# EAGLE library part R8C/13(32PIN) (library renesas_mcu)
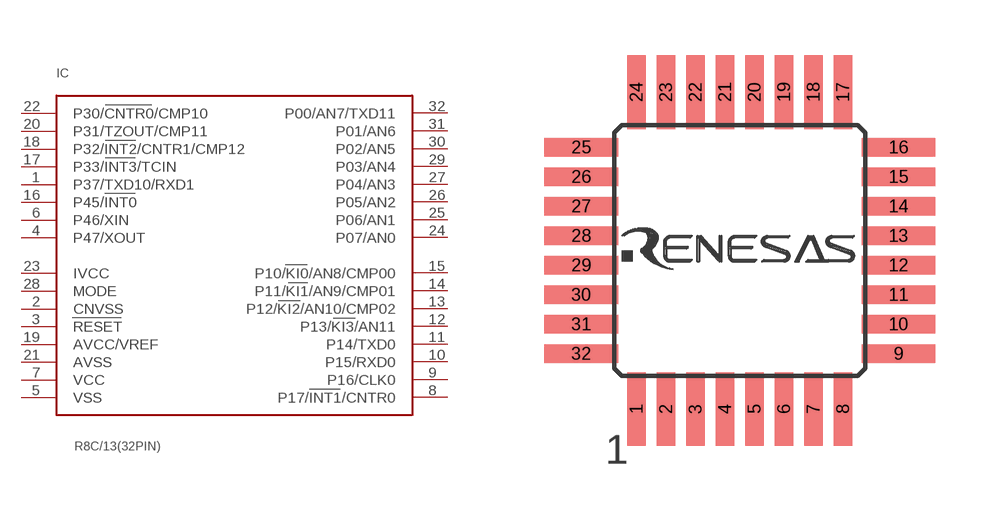
[diagram p81: symbol with the pads of 32P6U-A; footprint 32P6U-A]

Designator prefix IC

## R8C/13(32PIN)  [32P6U-A]
1  P37/TXD10/RXD1
2  CNVSS  in
3  RESET  in
4  P47/XOUT
5  VSS  in
6  P46/XIN  in
7  VCC  in
8  P17/INT1/CNTR0
9  P16/CLK0
10  P15/RXD0
11  P14/TXD0
12  P13/KI3/AN11
13  P12/KI2/AN10/CMP02
14  P11/KI1/AN9/CMP01
15  P10/KI0/AN8/CMP00
16  P45/INT0
17  P33/INT3/TCIN
18  P32/INT2/CNTR1/CMP12
19  AVCC/VREF  in
20  P31/TZOUT/CMP11
21  AVSS  in
22  P30/CNTR0/CMP10
23  IVCC  out
24  P07/AN0
25  P06/AN1
26  P05/AN2
27  P04/AN3
28  MODE  in
29  P03/AN4
30  P02/AN5
31  P01/AN6
32  P00/AN7/TXD11

## Footprint 32P6U-A (pad centres in mm)
smd 0.5 x 2: 1 -2.8,-4.3; 2 -2,-4.3; 3 -1.2,-4.3; 4 -0.4,-4.3; 5 0.4,-4.3; 6 1.2,-4.3; 7 2,-4.3; 8 2.8,-4.3; 17 2.8,4.3; 18 2,4.3; 19 1.2,4.3; 20 0.4,4.3; 21 -0.4,4.3; 22 -1.2,4.3; 23 -2,4.3; 24 -2.8,4.3
smd 2 x 0.5: 9 4.3,-2.8; 10 4.3,-2; 11 4.3,-1.2; 12 4.3,-0.4; 13 4.3,0.4; 14 4.3,1.2; 15 4.3,2; 16 4.3,2.8; 25 -4.3,2.8; 26 -4.3,2; 27 -4.3,1.2; 28 -4.3,0.4; 29 -4.3,-0.4; 30 -4.3,-1.2; 31 -4.3,-2; 32 -4.3,-2.8